# EAGLE library part LTC1665 (library xess)
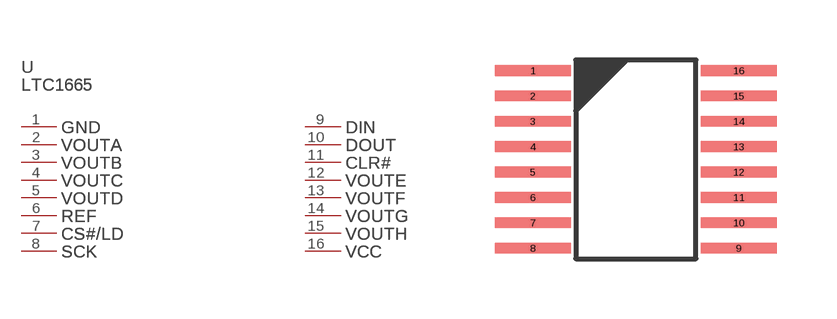
[diagram p62: symbol with the pads of LTC1665; footprint LTC1665]

Designator prefix U; gates PART_VALUE=PART_VALUE-LTC1665 GND=PL-LTC1665 VOUTA=PL-LTC1665 VOUTB=PL-LTC1665 VOUTC=PL-LTC1665 VOUTD=PL-LTC1665 REF=PL-LTC1665 CS#/LD=PL-LTC1665 SCK=PL-LTC1665 DIN=PL-LTC1665 DOUT=PL-LTC1665 CLR#=PL-LTC1665 VOUTE=PL-LTC1665 VOUTF=PL-LTC1665 VOUTG=PL-LTC1665 VOUTH=PL-LTC1665 VCC=PL-LTC1665

## LTC1665  [LTC1665]
1  GND:P$1
2  VOUTA:P$1
3  VOUTB:P$1
4  VOUTC:P$1
5  VOUTD:P$1
6  REF:P$1
7  CS#/LD:P$1
8  SCK:P$1
9  DIN:P$1
10  DOUT:P$1
11  CLR#:P$1
12  VOUTE:P$1
13  VOUTF:P$1
14  VOUTG:P$1
15  VOUTH:P$1
16  VCC:P$1

## Footprint LTC1665 (pad centres in mm)
smd 1.89 x 0.27: 1 -0.11,0; 2 -0.11,-0.635; 3 -0.11,-1.27; 4 -0.11,-1.905; 5 -0.11,-2.54; 6 -0.11,-3.175; 7 -0.11,-3.81; 8 -0.11,-4.445; 9 5.038,-4.445; 10 5.038,-3.81; 11 5.038,-3.175; 12 5.038,-2.54; 13 5.038,-1.905; 14 5.038,-1.27; 15 5.038,-0.635; 16 5.038,0